# Altium integrated library ON Semi MOSFETs.IntLib: 1097 symbols (part 4 of 26)
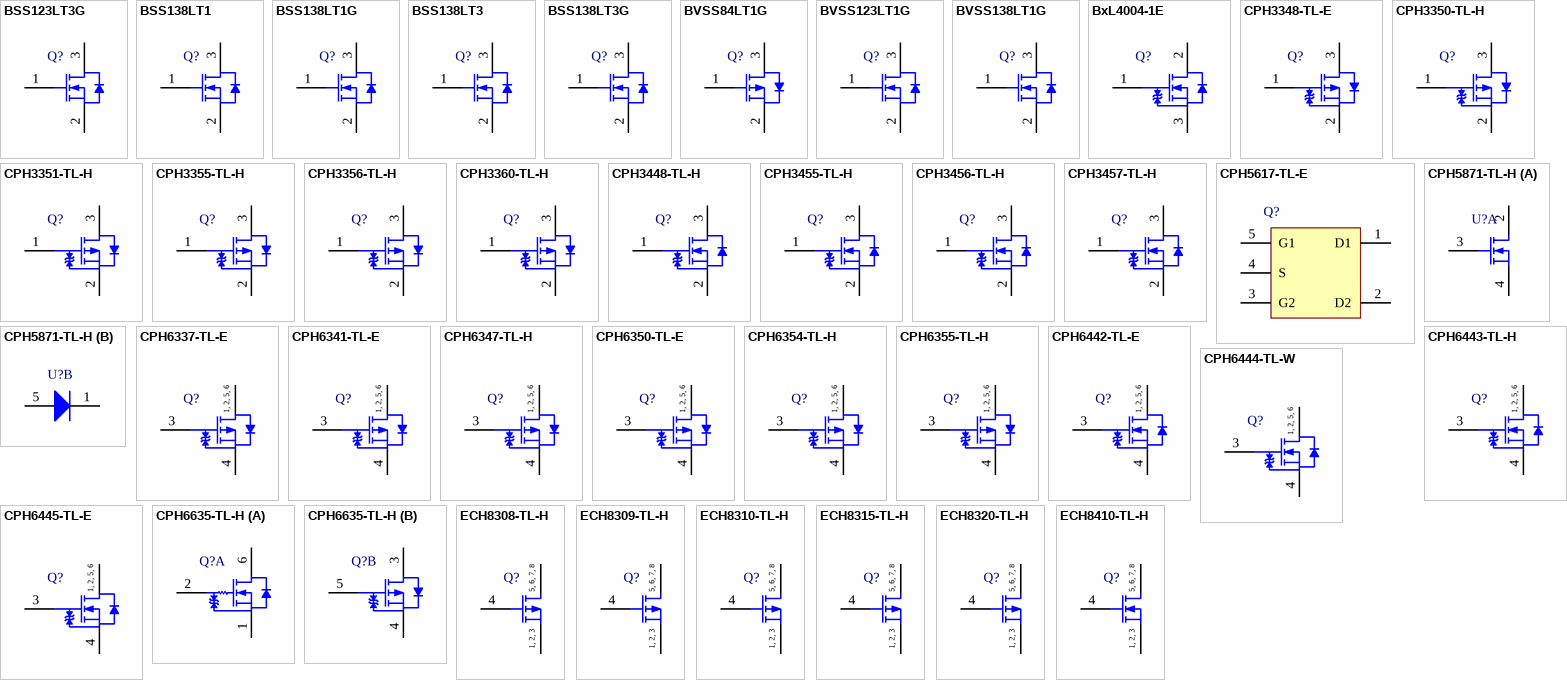
[diagram p34: symbols BSS123LT3G to ECH8410-TL-H]

## BSS138LT3
designator Q?
Power MOSFET, 200 mA, 50 V, N-Channel, 3-Pin SOT-23, Tape and Reel; Manufacturer: On Semiconductor; PartNumber: BSS138LT3; Channel Polarity: N Channel; Ciss Typ (pF): 40; Configuration: Single; Coss Typ (pF): 12; Crss Typ (pF): 3.5; ID Max (A): 0.2; PD Max (W): 0.225; V(BR)DSS Min (V): 50; VGS Max (V): 20; VGS(th) Max (V): 1.5; DatasheetVersion: Rev. 8; PackageVersion: Rev. AP, 11/2009; PackageReference: SOT-23-3-318-08; PackageDescription: 3-Pin Small Outline Transistor, Body 2.92 x 1.3 mm, Pitch 0.95 mm; Supplier 1: Digi-Key; Supplier Part Number 1: BSS138LT3-ND; Package Type: SOT-23-3; Packing: Tape and Reel; Mounting Technology: Surface Mount; ComponentLink1Description: Manufacturer URL; ComponentLink1URL: http://www.onsemi.com/; ComponentLink2Description: Datasheet; ComponentLink2URL: http://www.onsemi.com/pub_link/Collateral/BSS138LT1-D.PDF; ComponentLink3Description: Package Specification; ComponentLink3URL: http://www.onsemi.cn/pub_link/Collateral/318-08.PDF
footprint ONSC-SOT-23-3-318-08_V (SOT23, 3-Leads, Body 2.92x1.3mm, Pitch 0.95mm)
pins: 1 G, 2 S, 3 D

## BSS138LT3G
designator Q?
Power MOSFET, 200 mA, 50 V, N-Channel, 3-Pin SOT-23, Pb-Free, Tape and Reel; Manufacturer: On Semiconductor; PartNumber: BSS138LT3G; Channel Polarity: N Channel; Ciss Typ (pF): 40; Configuration: Single; Coss Typ (pF): 12; Crss Typ (pF): 3.5; ID Max (A): 0.2; PD Max (W): 0.225; V(BR)DSS Min (V): 50; VGS Max (V): 20; VGS(th) Max (V): 1.5; DatasheetVersion: Rev. 8; PackageVersion: Rev. AP, 11/2009; PackageReference: SOT-23-3-318-08; PackageDescription: 3-Pin Small Outline Transistor, Body 2.92 x 1.3 mm, Pitch 0.95 mm; Supplier 1: Digi-Key; Supplier Part Number 1: BSS138LT3GOSTR-ND; Supplier 2: Digi-Key; Supplier Part Number 2: BSS138LT3GOSCT-ND; Supplier 3: Farnell; Supplier Part Number 3: 2101819; Supplier 4: Farnell; Supplier Part Number 4: 2369427; Supplier 5: Newark; Supplier Part Number 5: 45J0624; Supplier 6: Newark; Supplier Part Number 6: 09R9392; Supplier 7: Mouser; Supplier Part Number 7: 863-BSS138LT3G; Package Type: SOT-23-3; Packing: Tape and Reel; RoHS: Pb-Free; Mounting Technology: Surface Mount; ComponentLink1Description: Manufacturer URL; ComponentLink1URL: http://www.onsemi.com/; ComponentLink2Description: Datasheet; ComponentLink2URL: http://www.onsemi.com/pub_link/Collateral/BSS138LT1-D.PDF; ComponentLink3Description: Package Specification; ComponentLink3URL: http://www.onsemi.cn/pub_link/Collateral/318-08.PDF
footprint ONSC-SOT-23-3-318-08_V (SOT23, 3-Leads, Body 2.92x1.3mm, Pitch 0.95mm)
pins: 1 G, 2 S, 3 D

## BVSS84LT1G
designator Q?
Power MOSFET Single P-Channel, -50 V, 10 Ohm, 3-Pin SOT-23, Pb-Free, Tape and Reel; Manufacturer: On Semiconductor; PartNumber: BVSS84LT1G; Channel Polarity: P Channel; Ciss Typ (pF): 36; Coss Typ (pF): 17; Crss Typ (pF): 6.5; ID Max (A): 0.13; PD Max (W): 0.225; V(BR)DSS Min (V): 50; VGS Max (V): 20; VGS(th) Max (V): 2; DatasheetVersion: Rev. 8; PackageVersion: Rev. AP, 11/2009; PackageReference: SOT-23-3-318-08; PackageDescription: 3-Pin Small Outline Transistor, Body 2.92 x 1.3 mm, Pitch 0.95 mm; Supplier 1: Digi-Key; Supplier Part Number 1: BVSS84LT1G-ND; Supplier 2: Newark; Supplier Part Number 2: 76T5276; Supplier 3: Mouser; Supplier Part Number 3: 863-BVSS84LT1G; Configuration: Single; Package Type: SOT-23-3; Packing: Tape and Reel; RoHS: Pb-Free; Mounting Technology: Surface Mount; ComponentLink1Description: Manufacturer URL; ComponentLink1URL: http://www.onsemi.com/; ComponentLink2Description: Datasheet; ComponentLink2URL: http://www.onsemi.com/pub_link/Collateral/BSS84LT1-D.PDF; ComponentLink3Description: Package Specification; ComponentLink3URL: http://www.onsemi.cn/pub_link/Collateral/318-08.PDF
footprint ONSC-SOT-23-3-318-08_V (SOT23, 3-Leads, Body 2.92x1.3mm, Pitch 0.95mm)
pins: 1 G, 2 S, 3 D

## BVSS123LT1G
designator Q?
Power MOSFET, 170 mA, 100 V, N-Channel, 3-Pin SOT-23, Pb-Free, Tape and Reel; Manufacturer: On Semiconductor; PartNumber: BVSS123LT1G; Channel Polarity: N Channel; Ciss Typ (pF): 20; Configuration: Single; Coss Typ (pF): 9; Crss Typ (pF): 4; ID Max (A): 0.17; PD Max (W): 0.225; V(BR)DSS Min (V): 100; VGS(th) Max (V): 2.6; DatasheetVersion: Rev. 8; PackageVersion: Rev. AP, 11/2009; PackageReference: SOT-23-3-318-08; PackageDescription: 3-Pin Small Outline Transistor, Body 2.92 x 1.3 mm, Pitch 0.95 mm; Supplier 1: Digi-Key; Supplier Part Number 1: BVSS123LT1G-ND; Supplier 2: Newark; Supplier Part Number 2: 76T5274; Supplier 3: Mouser; Supplier Part Number 3: 863-BVSS123LT1G; Package Type: SOT-23-3; Packing: Tape and Reel; RoHS: Pb-Free; VGS Max (V): 20; Mounting Technology: Surface Mount; ComponentLink1Description: Manufacturer URL; ComponentLink1URL: http://www.onsemi.com/; ComponentLink2Description: Datasheet; ComponentLink2URL: http://www.onsemi.com/pub_link/Collateral/BSS123LT1-D.PDF; ComponentLink3Description: Package Specification; ComponentLink3URL: http://www.onsemi.cn/pub_link/Collateral/318-08.PDF
footprint ONSC-SOT-23-3-318-08_V (SOT23, 3-Leads, Body 2.92x1.3mm, Pitch 0.95mm)
pins: 1 G, 2 S, 3 D

## BVSS138LT1G
designator Q?
Power MOSFET, 200 mA, 50 V, N-Channel, 3-Pin SOT-23, Pb-Free, Tape and Reel; Manufacturer: On Semiconductor; PartNumber: BVSS138LT1G; Channel Polarity: N Channel; Ciss Typ (pF): 40; Configuration: Single; Coss Typ (pF): 12; Crss Typ (pF): 3.5; ID Max (A): 0.2; PD Max (W): 0.225; V(BR)DSS Min (V): 50; VGS Max (V): 20; VGS(th) Max (V): 1.5; DatasheetVersion: Rev. 8; PackageVersion: Rev. AP, 11/2009; PackageReference: SOT-23-3-318-08; PackageDescription: 3-Pin Small Outline Transistor, Body 2.92 x 1.3 mm, Pitch 0.95 mm; Supplier 1: Digi-Key; Supplier Part Number 1: BVSS138LT1G-ND; Supplier 2: Newark; Supplier Part Number 2: 76T5275; Supplier 3: Mouser; Supplier Part Number 3: 863-BVSS138LT1G; Package Type: SOT-23-3; Packing: Tape and Reel; RoHS: Pb-Free; Mounting Technology: Surface Mount; ComponentLink1Description: Manufacturer URL; ComponentLink1URL: http://www.onsemi.com/; ComponentLink2Description: Datasheet; ComponentLink2URL: http://www.onsemi.com/pub_link/Collateral/BSS138LT1-D.PDF; ComponentLink3Description: Package Specification; ComponentLink3URL: http://www.onsemi.cn/pub_link/Collateral/318-08.PDF
footprint ONSC-SOT-23-3-318-08_V (SOT23, 3-Leads, Body 2.92x1.3mm, Pitch 0.95mm)
pins: 1 G, 2 S, 3 D

## BxL4004-1E
designator Q?
N-Channel Power MOSFET, 40 V, 100 A, 3.9 mOhm, 3-Pin TO-220, Pb-Free, Fan-Fold; Manufacturer: On Semiconductor; PartNumber: BxL4004-1E; Channel Polarity: N Channel; Ciss Typ (pF): 8200; Configuration: Single; Coss Typ (pF): 940; Crss Typ (pF): 700; ID Max (A): 100; Qrr Typ (nC): 230; V(BR)DSS Min (V): 40; VGS Max (V): 20; VGS(th) Max (V): 2.6; PackageVersion: Rev. O, 03/2012; PackageReference: TO-220-3L-3-221AU; PackageDescription: 3-Pin Flange Mount, Vertical Straight Lead, Body 10 x 4.5 mm, Pitch 2.54 mm; Package Type: TO-220 3-Lead / TO-220-3L; Packing: Fan-Fold; RoHS: Pb-Free; Mounting Technology: Through Hole; ComponentLink1Description: Manufacturer URL; ComponentLink1URL: http://www.onsemi.com/; ComponentLink2Description: Datasheet; ComponentLink2URL: http://www.onsemi.com/pub_link/Collateral/EN9050-D.PDF; ComponentLink3Description: Package Specification; ComponentLink3URL: http://www.onsemi.com/pub_link/Collateral/221AU.PDF
footprint ONSC-TO-220-3L-3-221AU (FM, 3-Leads, Body 10.2x4.7mm, Pitch 2.54mm)
pins: 1 G, 2 D, 3 S

## CPH3348-TL-E
designator Q?
P-Channel Power MOSFET, -12 V, -3 A, 70 mOhm, 3-Pin CPH, Pb-Free, Tape and Reel; Manufacturer: On Semiconductor; PartNumber: CPH3348-TL-E; Channel Polarity: P Channel; Ciss Typ (pF): 405; Configuration: Single; Coss Typ (pF): 145; Crss Typ (pF): 100; ID Max (A): 3; PD Max (W): 1; V(BR)DSS Min (V): 12; VGS Max (V): 10; VGS(th) Max (V): 1.4; PackageReference: CPH-3; PackageDescription: 3-Pin Small Outline Transistor, Body 2.9 x 1.6 mm, Pitch 0.95 mm; Supplier 1: Digi-Key; Supplier Part Number 1: 869-1130-2-ND; Supplier 2: Digi-Key; Supplier Part Number 2: 869-1130-1-ND; Supplier 3: Digi-Key; Supplier Part Number 3: 869-1130-6-ND; Supplier 4: Newark; Supplier Part Number 4: 52T7671; Supplier 5: Mouser; Supplier Part Number 5: 863-CPH3348-TL-E; Package Type: CPH-3; Packing: Tape and Reel; RoHS: Pb-Free; Mounting Technology: Surface Mount; ComponentLink1Description: Manufacturer URL; ComponentLink1URL: http://www.onsemi.com/; ComponentLink2Description: Datasheet; ComponentLink2URL: http://www.onsemi.com/pub_link/Collateral/CPH3348-D.PDF; ComponentLink3Description: Package Specification; ComponentLink3URL: http://www.onsemi.com/pub_link/Collateral/50A02CH-D.PDF
footprint ONSC-CPH-3_V (SOT23, 3-Leads, Body 2.9x1.6mm, Pitch 0.95mm)
pins: 1 G, 2 S, 3 D

## CPH3350-TL-H
designator Q?
P-Channel Power MOSFET, -20 V, -3 A, 83 mOhm, 3-Pin CPH, Pb-Free, Tape and Reel; Manufacturer: On Semiconductor; PartNumber: CPH3350-TL-H; Channel Polarity: P Channel; Ciss Typ (pF): 375; Configuration: Single; Coss Typ (pF): 77; Crss Typ (pF): 58; ID Max (A): 3; PD Max (W): 1; V(BR)DSS Min (V): 20; VGS Max (V): 10; VGS(th) Max (V): 1.3; PackageReference: CPH-3; PackageDescription: 3-Pin Small Outline Transistor, Body 2.9 x 1.6 mm, Pitch 0.95 mm; Supplier 1: Digi-Key; Supplier Part Number 1: CPH3350-TL-H-ND; Supplier 2: Newark; Supplier Part Number 2: 07W6742; Supplier 3: Mouser; Supplier Part Number 3: 863-CPH3350-TL-H; Package Type: CPH-3; Packing: Tape and Reel; RoHS: Pb-Free; Mounting Technology: Surface Mount; ComponentLink1Description: Manufacturer URL; ComponentLink1URL: http://www.onsemi.com/; ComponentLink2Description: Datasheet; ComponentLink2URL: http://www.onsemi.com/pub_link/Collateral/ENA0151-D.PDF; ComponentLink3Description: Package Specification; ComponentLink3URL: http://www.onsemi.com/pub_link/Collateral/50A02CH-D.PDF
footprint ONSC-CPH-3_V (SOT23, 3-Leads, Body 2.9x1.6mm, Pitch 0.95mm)
pins: 1 G, 2 S, 3 D

## CPH3351-TL-H
designator Q?
P-Channel Power MOSFET, -60 V, -1.8 A, 250 mOhm, 3-Pin CPH, Pb-Free, Tape and Reel; Manufacturer: On Semiconductor; PartNumber: CPH3351-TL-H; Channel Polarity: P Channel; Ciss Typ (pF): 262; Configuration: Single; Coss Typ (pF): 29; Crss Typ (pF): 19; ID Max (A): 1.8; PD Max (W): 1; V(BR)DSS Min (V): 60; VGS Max (V): 20; VGS(th) Max (V): 2.6; PackageReference: CPH-3; PackageDescription: 3-Pin Small Outline Transistor, Body 2.9 x 1.6 mm, Pitch 0.95 mm; Supplier 1: Digi-Key; Supplier Part Number 1: CPH3351-TL-H-ND; Supplier 2: Newark; Supplier Part Number 2: 52T7672; Supplier 3: Mouser; Supplier Part Number 3: 863-CPH3351-TL-H; Package Type: CPH-3; Packing: Tape and Reel; RoHS: Pb-Free; Mounting Technology: Surface Mount; ComponentLink1Description: Manufacturer URL; ComponentLink1URL: http://www.onsemi.com/; ComponentLink2Description: Datasheet; ComponentLink2URL: http://www.onsemi.com/pub_link/Collateral/ENA1880-D.PDF; ComponentLink3Description: Package Specification; ComponentLink3URL: http://www.onsemi.com/pub_link/Collateral/50A02CH-D.PDF
footprint ONSC-CPH-3_V (SOT23, 3-Leads, Body 2.9x1.6mm, Pitch 0.95mm)
pins: 1 G, 2 S, 3 D

## CPH3355-TL-H
designator Q?
P-Channel Power MOSFET, -30 V, -2.5 A, 156 mOhm, 3-Pin CPH, Pb-Free, Tape and Reel; Manufacturer: On Semiconductor; PartNumber: CPH3355-TL-H; Channel Polarity: P Channel; Ciss Typ (pF): 172; Configuration: Single; Coss Typ (pF): 51; Crss Typ (pF): 36; ID Max (A): 2.5; PD Max (W): 1; V(BR)DSS Min (V): 30; VGS Max (V): 20; VGS(th) Max (V): 2.6; PackageReference: CPH-3; PackageDescription: 3-Pin Small Outline Transistor, Body 2.9 x 1.6 mm, Pitch 0.95 mm; Supplier 1: Digi-Key; Supplier Part Number 1: CPH3355-TL-H-ND; Supplier 2: Mouser; Supplier Part Number 2: 863-CPH3355-TL-H; Package Type: CPH-3; Packing: Tape and Reel; RoHS: Pb-Free; Mounting Technology: Surface Mount; ComponentLink1Description: Manufacturer URL; ComponentLink1URL: http://www.onsemi.com/; ComponentLink2Description: Datasheet; ComponentLink2URL: http://www.onsemi.com/pub_link/Collateral/CPH3355-D.PDF; ComponentLink3Description: Package Specification; ComponentLink3URL: http://www.onsemi.com/pub_link/Collateral/50A02CH-D.PDF
footprint ONSC-CPH-3_V (SOT23, 3-Leads, Body 2.9x1.6mm, Pitch 0.95mm)
pins: 1 G, 2 S, 3 D

## CPH3356-TL-H
designator Q?
P-Channel Power MOSFET, -20 V, -2.5 A, 137 Ohm, 3-Pin CPH, Pb-Free, Tape and Reel; Manufacturer: On Semiconductor; PartNumber: CPH3356-TL-H; Channel Polarity: P Channel; Ciss Typ (pF): 250; Configuration: Single; Coss Typ (pF): 60; Crss Typ (pF): 45; ID Max (A): 2.5; PD Max (W): 1; V(BR)DSS Min (V): 20; VGS Max (V): 10; VGS(th) Max (V): 1.4; PackageReference: CPH-3; PackageDescription: 3-Pin Small Outline Transistor, Body 2.9 x 1.6 mm, Pitch 0.95 mm; Supplier 1: Digi-Key; Supplier Part Number 1: CPH3356-TL-H-ND; Supplier 2: Mouser; Supplier Part Number 2: 863-CPH3356-TL-H; Package Type: CPH-3; Packing: Tape and Reel; RoHS: Pb-Free; Mounting Technology: Surface Mount; ComponentLink1Description: Manufacturer URL; ComponentLink1URL: http://www.onsemi.com/; ComponentLink2Description: Datasheet; ComponentLink2URL: http://www.onsemi.com/pub_link/Collateral/CPH3356.PDF; ComponentLink3Description: Package Specification; ComponentLink3URL: http://www.onsemi.com/pub_link/Collateral/50A02CH-D.PDF
footprint ONSC-CPH-3_V (SOT23, 3-Leads, Body 2.9x1.6mm, Pitch 0.95mm)
pins: 1 G, 2 S, 3 D

## CPH3360-TL-H
designator Q?
P-Channel Power MOSFET, -30 V, -1.6 A, 303 mOhm, 3-Pin CPH, Pb-Free, Tape and Reel; Manufacturer: On Semiconductor; PartNumber: CPH3360-TL-H; Channel Polarity: P Channel; Ciss Typ (pF): 82; Configuration: Single; Coss Typ (pF): 22; Crss Typ (pF): 16; ID Max (A): 1.6; PD Max (W): 0.9; V(BR)DSS Min (V): 30; VGS Max (V): 20; VGS(th) Max (V): 2.6; PackageReference: CPH-3; PackageDescription: 3-Pin Small Outline Transistor, Body 2.9 x 1.6 mm, Pitch 0.95 mm; Supplier 1: Digi-Key; Supplier Part Number 1: CPH3360-TL-H-ND; Supplier 2: Newark; Supplier Part Number 2: 07W6744; Supplier 3: Mouser; Supplier Part Number 3: 863-CPH3360-TL-H; Package Type: CPH-3; Packing: Tape and Reel; RoHS: Pb-Free; Mounting Technology: Surface Mount; ComponentLink1Description: Manufacturer URL; ComponentLink1URL: http://www.onsemi.com/; ComponentLink2Description: Datasheet; ComponentLink2URL: http://www.onsemi.com/pub_link/Collateral/ENA0114-D.PDF; ComponentLink3Description: Package Specification; ComponentLink3URL: http://www.onsemi.com/pub_link/Collateral/50A02CH-D.PDF
footprint ONSC-CPH-3_V (SOT23, 3-Leads, Body 2.9x1.6mm, Pitch 0.95mm)
pins: 1 G, 2 S, 3 D

## CPH3448-TL-H
designator Q?
N-Channel Power MOSFET 30 V, 4 A, 50 mOhm, 3-Pin CPH, Pb-Free, Tape and Reel; Manufacturer: On Semiconductor; PartNumber: CPH3448-TL-H; Channel Polarity: N Channel; Ciss Typ (pF): 430; Configuration: Single; Coss Typ (pF): 59; Crss Typ (pF): 38; ID Max (A): 4; PD Max (W): 1; V(BR)DSS Min (V): 30; VGS Max (V): 12; VGS(th) Max (V): 1.3; PackageReference: CPH-3; PackageDescription: 3-Pin Small Outline Transistor, Body 2.9 x 1.6 mm, Pitch 0.95 mm; Supplier 1: Digi-Key; Supplier Part Number 1: CPH3448-TL-H-ND; Supplier 2: Mouser; Supplier Part Number 2: 863-CPH3448-TL-H; Package Type: CPH-3; Packing: Tape and Reel; RoHS: Pb-Free; Mounting Technology: Surface Mount; ComponentLink1Description: Manufacturer URL; ComponentLink1URL: http://www.onsemi.com/; ComponentLink2Description: Datasheet; ComponentLink2URL: http://www.onsemi.com/pub_link/Collateral/CPH3448-D.PDF; ComponentLink3Description: Package Specification; ComponentLink3URL: http://www.onsemi.com/pub_link/Collateral/50A02CH-D.PDF
footprint ONSC-CPH-3_V (SOT23, 3-Leads, Body 2.9x1.6mm, Pitch 0.95mm)
pins: 1 G, 2 S, 3 D

## CPH3455-TL-H
designator Q?
N-Channel Power MOSFET, 35 V, 3 A, 104 mOhm, 3-Pin CPH, Pb-Free, Tape and Reel; Manufacturer: On Semiconductor; PartNumber: CPH3455-TL-H; Channel Polarity: N Channel; Ciss Typ (pF): 186; Configuration: Single; Coss Typ (pF): 36; Crss Typ (pF): 22; ID Max (A): 3; PD Max (W): 1; V(BR)DSS Min (V): 35; VGS Max (V): 20; VGS(th) Max (V): 2.6; PackageReference: CPH-3; PackageDescription: 3-Pin Small Outline Transistor, Body 2.9 x 1.6 mm, Pitch 0.95 mm; Supplier 1: Digi-Key; Supplier Part Number 1: CPH3455-TL-H-ND; Supplier 2: Mouser; Supplier Part Number 2: 863-CPH3455-TL-H; Package Type: CPH-3; Packing: Tape and Reel; RoHS: Pb-Free; Mounting Technology: Surface Mount; ComponentLink1Description: Manufacturer URL; ComponentLink1URL: http://www.onsemi.com/; ComponentLink2Description: Datasheet; ComponentLink2URL: http://www.onsemi.com/pub_link/Collateral/CPH3455-D.PDF; ComponentLink3Description: Package Specification; ComponentLink3URL: http://www.onsemi.com/pub_link/Collateral/50A02CH-D.PDF
footprint ONSC-CPH-3_V (SOT23, 3-Leads, Body 2.9x1.6mm, Pitch 0.95mm)
pins: 1 G, 2 S, 3 D

## CPH3456-TL-H
designator Q?
N-Channel Power MOSFET, 20 V, 3.5 A, 71 mOhm, 3-Pin CPH, Pb-Free, Tape and Reel; Manufacturer: On Semiconductor; PartNumber: CPH3456-TL-H; Channel Polarity: N Channel; Ciss Typ (pF): 260; Configuration: Single; Coss Typ (pF): 65; Crss Typ (pF): 50; ID Max (A): 3.5; PD Max (W): 1; V(BR)DSS Min (V): 20; VGS Max (V): 12; VGS(th) Max (V): 1.3; PackageReference: CPH-3; PackageDescription: 3-Pin Small Outline Transistor, Body 2.9 x 1.6 mm, Pitch 0.95 mm; Supplier 1: Digi-Key; Supplier Part Number 1: CPH3456-TL-H-ND; Supplier 2: Mouser; Supplier Part Number 2: 863-CPH3456-TL-H; Package Type: CPH-3; Packing: Tape and Reel; RoHS: Pb-Free; Mounting Technology: Surface Mount; ComponentLink1Description: Manufacturer URL; ComponentLink1URL: http://www.onsemi.com/; ComponentLink2Description: Datasheet; ComponentLink2URL: http://www.onsemi.com/pub_link/Collateral/CPH3456-D.PDF; ComponentLink3Description: Package Specification; ComponentLink3URL: http://www.onsemi.com/pub_link/Collateral/50A02CH-D.PDF
footprint ONSC-CPH-3_V (SOT23, 3-Leads, Body 2.9x1.6mm, Pitch 0.95mm)
pins: 1 G, 2 S, 3 D

## CPH3457-TL-H
designator Q?
N-Channel Power MOSFET, 30 V, 3 A, 95 mOhm, 3-Pin CPH, Pb-Free, Tape and Reel; Manufacturer: On Semiconductor; PartNumber: CPH3457-TL-H; Channel Polarity: N Channel; Ciss Typ (pF): 265; Configuration: Single; Coss Typ (pF): 35; Crss Typ (pF): 28; ID Max (A): 3; PD Max (W): 1; V(BR)DSS Min (V): 30; VGS Max (V): 12; VGS(th) Max (V): 1.3; PackageReference: CPH-3; PackageDescription: 3-Pin Small Outline Transistor, Body 2.9 x 1.6 mm, Pitch 0.95 mm; Supplier 1: Digi-Key; Supplier Part Number 1: CPH3457-TL-H-ND; Supplier 2: Mouser; Supplier Part Number 2: 863-CPH3457-TL-H; Package Type: CPH-3; Packing: Tape and Reel; RoHS: Pb-Free; Mounting Technology: Surface Mount; ComponentLink1Description: Manufacturer URL; ComponentLink1URL: http://www.onsemi.com/; ComponentLink2Description: Datasheet; ComponentLink2URL: http://www.onsemi.com/pub_link/Collateral/CPH3457-D.PDF; ComponentLink3Description: Package Specification; ComponentLink3URL: http://www.onsemi.com/pub_link/Collateral/50A02CH-D.PDF
footprint ONSC-CPH-3_V (SOT23, 3-Leads, Body 2.9x1.6mm, Pitch 0.95mm)
pins: 1 G, 2 S, 3 D

## CPH5617-TL-E
designator Q?
N-Channel Power MOSFET, 30 V, 150 mA, 3.7 Ohm, 5-Pin CPH, Pb-Free, Tape and Reel; Manufacturer: On Semiconductor; PartNumber: CPH5617-TL-E; Channel Polarity: N Channel; Ciss Typ (pF): 7; Configuration: Dual; Coss Typ (pF): 5.9; Crss Typ (pF): 2.3; ID Max (A): 0.15; PD Max (W): 0.25; V(BR)DSS Min (V): 30; VGS Max (V): 10; VGS(th) Max (V): 1.3; PackageReference: CPH-5; PackageDescription: 5-Pin Small Outline Transistor, Body 2.9 x 1.6 mm, Pitch 0.95 mm; Supplier 1: Digi-Key; Supplier Part Number 1: CPH5617-TL-E-ND; Supplier 2: Newark; Supplier Part Number 2: 07W6752; Supplier 3: Mouser; Supplier Part Number 3: 863-CPH5617-TL-E; Package Type: CPH-5; Packing: Tape and Reel; RoHS: Pb-Free; Mounting Technology: Surface Mount; ComponentLink1Description: Manufacturer URL; ComponentLink1URL: http://www.onsemi.com/; ComponentLink2Description: Datasheet; ComponentLink2URL: http://www.onsemi.com/pub_link/Collateral/CPH5617-D.PDF; ComponentLink3Description: Package Specification; ComponentLink3URL: http://www.onsemi.com/pub_link/Collateral/CPH5504-D.PDF
footprint ONSC-CPH-5_V (SOT23, 5-Leads, Body 2.9x1.6mm, Pitch 0.95mm)
pins: 1 D1, 2 D2, 3 G2, 4 S, 5 G1

## CPH5871-TL-H
designator U?
N-Channel Power MOSFET, 30 V, 3.5 A, 52 mOhm, 5-Pin CPH, Pb-Free, Tape and Reel; Manufacturer: On Semiconductor; PartNumber: CPH5871-TL-H; Channel Polarity: N Channel; Ciss Typ (pF): 430; Configuration: with Schottky Diode; Coss Typ (pF): 59; Crss Typ (pF): 38; ID Max (A): 3.5; PD Max (W): 0.9; V(BR)DSS Min (V): 30; VGS Max (V): 12; VGS(th) Max (V): 1.3; PackageReference: CPH-5; PackageDescription: 5-Pin Small Outline Transistor, Body 2.9 x 1.6 mm, Pitch 0.95 mm; Supplier 1: Digi-Key; Supplier Part Number 1: CPH5871-TL-H-ND; Supplier 2: Newark; Supplier Part Number 2: 07W6753; Supplier 3: Mouser; Supplier Part Number 3: 863-CPH5871-TL-H; Package Type: CPH-5; Packing: Tape and Reel; RoHS: Pb-Free; Mounting Technology: Surface Mount; ComponentLink1Description: Manufacturer URL; ComponentLink1URL: http://www.onsemi.com/; ComponentLink2Description: Datasheet; ComponentLink2URL: http://www.onsemi.com/pub_link/Collateral/ENA1401-D.PDF; ComponentLink3Description: Package Specification; ComponentLink3URL: http://www.onsemi.com/pub_link/Collateral/CPH5504-D.PDF
footprint ONSC-CPH-5_V (SOT23, 5-Leads, Body 2.9x1.6mm, Pitch 0.95mm)
part A pins: 2 D, 3 G, 4 S
part B pins: 1 K, 5 A

## CPH6337-TL-E
designator Q?
P-Channel Power MOSFET, -12 V, -3.5 A, 70 mOhm, 6-Pin CPH, Pb-Free, Tape and Reel; Manufacturer: On Semiconductor; PartNumber: CPH6337-TL-E; Channel Polarity: P Channel; Ciss Typ (pF): 405; Configuration: Single; Coss Typ (pF): 145; Crss Typ (pF): 100; ID Max (A): 3.5; PD Max (W): 1.6; V(BR)DSS Min (V): 12; VGS Max (V): 10; VGS(th) Max (V): 1.4; PackageReference: CPH-6; PackageDescription: 6-Pin Small Outline Transistor, Body 2.9 x 1.6 mm, Pitch 0.95 mm; Supplier 1: Digi-Key; Supplier Part Number 1: CPH6337-TL-E-ND; Supplier 2: Mouser; Supplier Part Number 2: 863-CPH6337-TL-E; Package Type: CPH-6; Packing: Tape and Reel; RoHS: Pb-Free; Mounting Technology: Surface Mount; ComponentLink1Description: Manufacturer URL; ComponentLink1URL: http://www.onsemi.com/; ComponentLink2Description: Datasheet; ComponentLink2URL: http://www.onsemi.com/pub_link/Collateral/CPH6337-D.PDF; ComponentLink3Description: Package Specification; ComponentLink3URL: http://www.onsemi.com/pub_link/Collateral/CPH6001A-D.PDF
footprint ONSC-CPH-6_V (SOT23, 6-Leads, Body 2.9x1.6mm, Pitch 0.95mm)
pins: 1 D, 2 D, 3 G, 4 S, 5 D, 6 D
text: 1, 2, 5, 6

## CPH6341-TL-E
designator Q?
P-Channel Power MOSFET, -30 V, -5 A, 59 mOhm, 6-Pin CPH, Pb-Free, Tape and Reel; Manufacturer: On Semiconductor; PartNumber: CPH6341-TL-E; Channel Polarity: P Channel; Ciss Typ (pF): 430; Configuration: Single; Coss Typ (pF): 105; Crss Typ (pF): 75; ID Max (A): 5; PD Max (W): 1.6; V(BR)DSS Min (V): 30; VGS Max (V): 20; VGS(th) Max (V): 2.6; PackageReference: CPH-6; PackageDescription: 6-Pin Small Outline Transistor, Body 2.9 x 1.6 mm, Pitch 0.95 mm; Supplier 1: Digi-Key; Supplier Part Number 1: 869-1141-2-ND; Supplier 2: Digi-Key; Supplier Part Number 2: 869-1141-1-ND; Supplier 3: Digi-Key; Supplier Part Number 3: 869-1141-6-ND; Supplier 4: Newark; Supplier Part Number 4: 52T7683; Supplier 5: Mouser; Supplier Part Number 5: 863-CPH6341-TL-E; Package Type: CPH-6; Packing: Tape and Reel; RoHS: Pb-Free; Mounting Technology: Surface Mount; ComponentLink1Description: Manufacturer URL; ComponentLink1URL: http://www.onsemi.com/; ComponentLink2Description: Datasheet; ComponentLink2URL: http://www.onsemi.com/pub_link/Collateral/CPH6341-D.PDF; ComponentLink3Description: Package Specification; ComponentLink3URL: http://www.onsemi.com/pub_link/Collateral/CPH6001A-D.PDF
footprint ONSC-CPH-6_V (SOT23, 6-Leads, Body 2.9x1.6mm, Pitch 0.95mm)
pins: 1 D, 2 D, 3 G, 4 S, 5 D, 6 D
text: 1, 2, 5, 6

## CPH6347-TL-H
designator Q?
P-Channel Power MOSFET, -20 V, -6 A, 39 mOhm, 6-Pin CPH, Pb-Free, Tape and Reel; Manufacturer: On Semiconductor; PartNumber: CPH6347-TL-H; Channel Polarity: P Channel; Ciss Typ (pF): 860; Configuration: Single; Coss Typ (pF): 170; Crss Typ (pF): 130; ID Max (A): 6; PD Max (W): 1.6; V(BR)DSS Min (V): 20; VGS Max (V): 12; VGS(th) Max (V): 1.4; PackageReference: CPH-6; PackageDescription: 6-Pin Small Outline Transistor, Body 2.9 x 1.6 mm, Pitch 0.95 mm; Supplier 1: Digi-Key; Supplier Part Number 1: CPH6347-TL-H-ND; Supplier 2: Mouser; Supplier Part Number 2: 863-CPH6347-TL-H; Package Type: CPH-6; Packing: Tape and Reel; RoHS: Pb-Free; Mounting Technology: Surface Mount; ComponentLink1Description: Manufacturer URL; ComponentLink1URL: http://www.onsemi.com/; ComponentLink2Description: Datasheet; ComponentLink2URL: http://www.onsemi.com/pub_link/Collateral/CPH6347-D.PDF; ComponentLink3Description: Package Specification; ComponentLink3URL: http://www.onsemi.com/pub_link/Collateral/CPH6001A-D.PDF
footprint ONSC-CPH-6_V (SOT23, 6-Leads, Body 2.9x1.6mm, Pitch 0.95mm)
pins: 1 D, 2 D, 3 G, 4 S, 5 D, 6 D
text: 1, 2, 5, 6

## CPH6350-TL-E
designator Q?
P-Channel Power MOSFET, -30 V, -6 A, 43 mOhm, 6-Pin CPH, Pb-Free, Tape and Reel; Manufacturer: On Semiconductor; PartNumber: CPH6350-TL-E; Channel Polarity: P Channel; Ciss Typ (pF): 600; Configuration: Single; Coss Typ (pF): 145; Crss Typ (pF): 110; ID Max (A): 6; PD Max (W): 1.6; V(BR)DSS Min (V): 30; VGS Max (V): 20; VGS(th) Max (V): 2.6; PackageReference: CPH-6; PackageDescription: 6-Pin Small Outline Transistor, Body 2.9 x 1.6 mm, Pitch 0.95 mm; Supplier 1: Digi-Key; Supplier Part Number 1: CPH6350-TL-E-ND; Supplier 2: Mouser; Supplier Part Number 2: 863-CPH6350-TL-E; Package Type: CPH-6; Packing: Tape and Reel; RoHS: Pb-Free; Mounting Technology: Surface Mount; ComponentLink1Description: Manufacturer URL; ComponentLink1URL: http://www.onsemi.com/; ComponentLink2Description: Datasheet; ComponentLink2URL: http://www.onsemi.com/pub_link/Collateral/CPH6350-D.PDF; ComponentLink3Description: Package Specification; ComponentLink3URL: http://www.onsemi.com/pub_link/Collateral/CPH6001A-D.PDF
footprint ONSC-CPH-6_V (SOT23, 6-Leads, Body 2.9x1.6mm, Pitch 0.95mm)
pins: 1 D, 2 D, 3 G, 4 S, 5 D, 6 D
text: 1, 2, 5, 6

## CPH6354-TL-H
designator Q?
P-Channel Power MOSFET, -60 V, -4 A, 100 mOhm, 6-Pin CPH, Pb-Free, Tape and Reel; Manufacturer: On Semiconductor; PartNumber: CPH6354-TL-H; Channel Polarity: P Channel; Ciss Typ (pF): 600; Configuration: Single; Coss Typ (pF): 60; Crss Typ (pF): 50; ID Max (A): 4; PD Max (W): 1.6; VGS Max (V): 20; VGS(th) Max (V): 2.6; PackageReference: CPH-6; PackageDescription: 6-Pin Small Outline Transistor, Body 2.9 x 1.6 mm, Pitch 0.95 mm; Supplier 1: Digi-Key; Supplier Part Number 1: CPH6354-TL-H-ND; Supplier 2: Newark; Supplier Part Number 2: 07W6755; Supplier 3: Mouser; Supplier Part Number 3: 863-CPH6354-TL-H; Package Type: CPH-6; Packing: Tape and Reel; RoHS: Pb-Free; V(BR)DSS Min (V): 60; Mounting Technology: Surface Mount; ComponentLink1Description: Manufacturer URL; ComponentLink1URL: http://www.onsemi.com/; ComponentLink2Description: Datasheet; ComponentLink2URL: http://www.onsemi.com/pub_link/Collateral/CPH6354.PDF; ComponentLink3Description: Package Specification; ComponentLink3URL: http://www.onsemi.com/pub_link/Collateral/CPH6001A-D.PDF
footprint ONSC-CPH-6_V (SOT23, 6-Leads, Body 2.9x1.6mm, Pitch 0.95mm)
pins: 1 D, 2 D, 3 G, 4 S, 5 D, 6 D
text: 1, 2, 5, 6

## CPH6355-TL-H
designator Q?
P-Channel Power MOSFET, -30 V, -3 A, 169 Ohm, 6-Pin CPH, Pb-Free, Tape and Reel; Manufacturer: On Semiconductor; PartNumber: CPH6355-TL-H; Channel Polarity: P Channel; Ciss Typ (pF): 172; Configuration: Single; Coss Typ (pF): 51; Crss Typ (pF): 36; ID Max (A): 3; PD Max (W): 1.6; V(BR)DSS Min (V): 30; VGS Max (V): 20; VGS(th) Max (V): 2.6; PackageReference: CPH-6; PackageDescription: 6-Pin Small Outline Transistor, Body 2.9 x 1.6 mm, Pitch 0.95 mm; Supplier 1: Digi-Key; Supplier Part Number 1: CPH6355-TL-H-ND; Supplier 2: Mouser; Supplier Part Number 2: 863-CPH6355-TL-H; Package Type: CPH-6; Packing: Tape and Reel; RoHS: Pb-Free; Mounting Technology: Surface Mount; ComponentLink1Description: Manufacturer URL; ComponentLink1URL: http://www.onsemi.com/; ComponentLink2Description: Datasheet; ComponentLink2URL: http://www.onsemi.com/pub_link/Collateral/CPH6355-D.PDF; ComponentLink3Description: Package Specification; ComponentLink3URL: http://www.onsemi.com/pub_link/Collateral/CPH6001A-D.PDF
footprint ONSC-CPH-6_V (SOT23, 6-Leads, Body 2.9x1.6mm, Pitch 0.95mm)
pins: 1 D, 2 D, 3 G, 4 S, 5 D, 6 D
text: 1, 2, 5, 6

## CPH6442-TL-E
designator Q?
N-Channel Power MOSFET, 60 V, 6 A, 43 mOhm, 6-Pin CPH, Pb-Free, Tape and Reel; Manufacturer: On Semiconductor; PartNumber: CPH6442-TL-E; Channel Polarity: N Channel; Ciss Typ (pF): 1040; Configuration: Single; Coss Typ (pF): 90; Crss Typ (pF): 55; ID Max (A): 6; PD Max (W): 1.6; V(BR)DSS Min (V): 60; VGS Max (V): 20; VGS(th) Max (V): 2.6; PackageReference: CPH-6; PackageDescription: 6-Pin Small Outline Transistor, Body 2.9 x 1.6 mm, Pitch 0.95 mm; Supplier 1: Digi-Key; Supplier Part Number 1: CPH6442-TL-E-ND; Supplier 2: Newark; Supplier Part Number 2: 52T7686; Supplier 3: Mouser; Supplier Part Number 3: 863-CPH6442-TL-E; Package Type: CPH-6; Packing: Tape and Reel; RoHS: Pb-Free; Mounting Technology: Surface Mount; ComponentLink1Description: Manufacturer URL; ComponentLink1URL: http://www.onsemi.com/; ComponentLink2Description: Datasheet; ComponentLink2URL: http://www.onsemi.com/pub_link/Collateral/CPH6442-D.PDF; ComponentLink3Description: Package Specification; ComponentLink3URL: http://www.onsemi.com/pub_link/Collateral/CPH6001A-D.PDF
footprint ONSC-CPH-6_V (SOT23, 6-Leads, Body 2.9x1.6mm, Pitch 0.95mm)
pins: 1 D, 2 D, 3 G, 4 S, 5 D, 6 D
text: 1, 2, 5, 6

## CPH6443-TL-H
designator Q?
N-Channel Power MOSFET, 35 V, 6 A, 37 mOhm, 6-Pin CPH, Pb-Free, Tape and Reel; Manufacturer: On Semiconductor; PartNumber: CPH6443-TL-H; Channel Polarity: N Channel; Ciss Typ (pF): 470; Configuration: Single; Coss Typ (pF): 70; Crss Typ (pF): 35; ID Max (A): 6; PD Max (W): 1.6; VGS Max (V): 20; VGS(th) Max (V): 2.6; PackageReference: CPH-6; PackageDescription: 6-Pin Small Outline Transistor, Body 2.9 x 1.6 mm, Pitch 0.95 mm; Supplier 1: Digi-Key; Supplier Part Number 1: CPH6443-TL-H-ND; Supplier 2: Mouser; Supplier Part Number 2: 863-CPH6443-TL-H; Package Type: CPH-6; Packing: Tape and Reel; RoHS: Pb-Free; V(BR)DSS Min (V): 35; Mounting Technology: Surface Mount; ComponentLink1Description: Manufacturer URL; ComponentLink1URL: http://www.onsemi.com/; ComponentLink2Description: Datasheet; ComponentLink2URL: http://www.onsemi.com/pub_link/Collateral/CPH6443-D.PDF; ComponentLink3Description: Package Specification; ComponentLink3URL: http://www.onsemi.com/pub_link/Collateral/CPH6001A-D.PDF
footprint ONSC-CPH-6_V (SOT23, 6-Leads, Body 2.9x1.6mm, Pitch 0.95mm)
pins: 1 D, 2 D, 3 G, 4 S, 5 D, 6 D
text: 1, 2, 5, 6

## CPH6444-TL-W
designator Q?
N-Channel Power MOSFET, 60 V, 4.5 A, 78 mOhm, 6-Pin CPH, Pb-Free, Tape and Reel; Manufacturer: On Semiconductor; PartNumber: CPH6444-TL-W; Channel Polarity: N Channel; Ciss Typ (pF): 505; Configuration: Single; Coss Typ (pF): 57; Crss Typ (pF): 37; ID Max (A): 4.5; PD Max (W): 1.6; V(BR)DSS Min (V): 60; VGS Max (V): 20; VGS(th) Max (V): 2.6; PackageReference: CPH-6; PackageDescription: 6-Pin Small Outline Transistor, Body 2.9 x 1.6 mm, Pitch 0.95 mm; Supplier 1: Newark; Supplier Part Number 1: 11X3109; Supplier 2: Mouser; Supplier Part Number 2: 863-CPH6444-TL-W; Package Type: CPH-6; Packing: Tape and Reel; RoHS: Pb-Free; Mounting Technology: Surface Mount; ComponentLink1Description: Manufacturer URL; ComponentLink1URL: http://www.onsemi.com/; ComponentLink2Description: Datasheet; ComponentLink2URL: http://www.onsemi.com/pub_link/Collateral/CPH6444-D.PDF; ComponentLink3Description: Package Specification; ComponentLink3URL: http://www.onsemi.com/pub_link/Collateral/CPH6001A-D.PDF
footprint ONSC-CPH-6_V (SOT23, 6-Leads, Body 2.9x1.6mm, Pitch 0.95mm)
pins: 1 D, 2 D, 3 G, 4 S, 5 D, 6 D
text: 1, 2, 5, 6

## CPH6445-TL-E
designator Q?
N-Channel Power MOSFET, 60 V, 3.5 A, 117 mOhm, 6-Pin CPH, Pb-Free, Tape and Reel; Manufacturer: On Semiconductor; PartNumber: CPH6445-TL-E; Channel Polarity: N Channel; Ciss Typ (pF): 310; Configuration: Single; Coss Typ (pF): 40; Crss Typ (pF): 25; ID Max (A): 3.5; PD Max (W): 1.6; V(BR)DSS Min (V): 60; VGS Max (V): 20; VGS(th) Max (V): 2.6; PackageReference: CPH-6; PackageDescription: 6-Pin Small Outline Transistor, Body 2.9 x 1.6 mm, Pitch 0.95 mm; Supplier 1: Digi-Key; Supplier Part Number 1: CPH6445-TL-E-ND; Supplier 2: Mouser; Supplier Part Number 2: 863-CPH6445-TL-E; Package Type: CPH-6; Packing: Tape and Reel; RoHS: Pb-Free; Mounting Technology: Surface Mount; ComponentLink1Description: Manufacturer URL; ComponentLink1URL: http://www.onsemi.com/; ComponentLink2Description: Datasheet; ComponentLink2URL: http://www.onsemi.com/pub_link/Collateral/CPH6445-D.PDF; ComponentLink3Description: Package Specification; ComponentLink3URL: http://www.onsemi.com/pub_link/Collateral/CPH6001A-D.PDF
footprint ONSC-CPH-6_V (SOT23, 6-Leads, Body 2.9x1.6mm, Pitch 0.95mm)
pins: 1 D, 2 D, 3 G, 4 S, 5 D, 6 D
text: 1, 2, 5, 6

## CPH6635-TL-H
designator Q?
Power MOSFET, 30 V, 0.4 A, 3.7 Ohm, -20 V, -1.5 A, 280 mOhm, 6-Pin CPH, Pb-Free, Tape and Reel; Manufacturer: On Semiconductor; PartNumber: CPH6635-TL-H; Channel Polarity: Complementary; Configuration: Dual; PD Max (W): 0.8; VGS Max (V): 10; PackageReference: CPH-6; PackageDescription: 6-Pin Small Outline Transistor, Body 2.9 x 1.6 mm, Pitch 0.95 mm; Supplier 1: Newark; Supplier Part Number 1: 97W4972; Supplier 2: Mouser; Supplier Part Number 2: 863-CPH6635-TL-H; Package Type: CPH-6; Packing: Tape and Reel; RoHS: Pb-Free; Mounting Technology: Surface Mount; ComponentLink1Description: Manufacturer URL; ComponentLink1URL: http://www.onsemi.com/; ComponentLink2Description: Datasheet; ComponentLink2URL: http://www.onsemi.com/pub_link/Collateral/ENA2166-D.PDF; ComponentLink3Description: Package Specification; ComponentLink3URL: http://www.onsemi.com/pub_link/Collateral/CPH6001A-D.PDF
footprint ONSC-CPH-6_V (SOT23, 6-Leads, Body 2.9x1.6mm, Pitch 0.95mm)
part A pins: 1 S1, 2 G1, 6 D1
part B pins: 3 D2, 4 S2, 5 G2

## ECH8308-TL-H
designator Q?
P-Channel Power MOSFET, -12 V, -10 A, 12.5 mOhm, Single, 8-Pin ECH, Pb-Free, Tape and Reel; Manufacturer: On Semiconductor; PartNumber: ECH8308-TL-H; Channel Polarity: P Channel; Ciss Typ (pF): 2300; Coss Typ (pF): 720; Crss Typ (pF): 550; ID Max (A): 10; PD Max (W): 1.6; V(BR)DSS Min (V): 12; VGS(th) Max (V): 1.3; PackageReference: ECH-8; PackageDescription: 8-Pin SOT23, Body 2.9 x 2.3 mm, Pitch 0.65 mm; Supplier 1: Digi-Key; Supplier Part Number 1: ECH8308-TL-H-ND; Supplier 2: Newark; Supplier Part Number 2: 52T7754; Supplier 3: Mouser; Supplier Part Number 3: 863-ECH8308-TL-H; Configuration: Single; Package Type: SOT-28 FL / ECH-8; Packing: Tape and Reel; RoHS: Pb-Free; VGS Max (V): 10; Mounting Technology: Surface Mount; ComponentLink1Description: Manufacturer URL; ComponentLink1URL: http://www.onsemi.com/; ComponentLink2Description: Datasheet; ComponentLink2URL: http://www.onsemi.com/pub_link/Collateral/ECH8308-D.PDF; ComponentLink3Description: Package Specification; ComponentLink3URL: http://www.onsemi.com/pub_link/Collateral/ECH8308-D.PDF
footprint ONSC-ECH-8_V (SOT23, 8-Leads, Body 2.9x2.3mm, Pitch 0.65mm)
pins: 1 S, 2 S, 3 S, 4 G, 5 D, 6 D, 7 D, 8 D
text: 5, 6, 7, 8; 1, 2, 3

## ECH8309-TL-H
designator Q?
P-Channel Power MOSFET, -12 V, -9.5 A, 16 mOhm, Single, 8-Pin ECH, Pb-Free, Tape and Reel; Manufacturer: On Semiconductor; PartNumber: ECH8309-TL-H; Channel Polarity: P Channel; Ciss Typ (pF): 1780; Coss Typ (pF): 540; Crss Typ (pF): 390; ID Max (A): 9.5; PD Max (W): 1.5; V(BR)DSS Min (V): 12; VGS Max (V): 10; VGS(th) Max (V): 1.3; PackageReference: ECH-8; PackageDescription: 8-Pin SOT23, Body 2.9 x 2.3 mm, Pitch 0.65 mm; Supplier 1: Digi-Key; Supplier Part Number 1: ECH8309-TL-H-ND; Supplier 2: Mouser; Supplier Part Number 2: 863-ECH8309-TL-H; Configuration: Single; Package Type: SOT-28 FL / ECH-8; Packing: Tape and Reel; RoHS: Pb-Free; Mounting Technology: Surface Mount; ComponentLink1Description: Manufacturer URL; ComponentLink1URL: http://www.onsemi.com/; ComponentLink2Description: Datasheet; ComponentLink2URL: http://www.onsemi.com/pub_link/Collateral/ECH8309-D.PDF; ComponentLink3Description: Package Specification; ComponentLink3URL: http://www.onsemi.com/pub_link/Collateral/ECH8308-D.PDF
footprint ONSC-ECH-8_V (SOT23, 8-Leads, Body 2.9x2.3mm, Pitch 0.65mm)
pins: 1 S, 2 S, 3 S, 4 G, 5 D, 6 D, 7 D, 8 D
text: 5, 6, 7, 8; 1, 2, 3

## ECH8310-TL-H
designator Q?
P-Channel Power MOSFET, -30 V, -9 A, 17 mOhm, Single, 8-Pin ECH, Pb-Free, Tape and Reel; Manufacturer: On Semiconductor; PartNumber: ECH8310-TL-H; Channel Polarity: P Channel; Ciss Typ (pF): 1400; Coss Typ (pF): 350; Crss Typ (pF): 250; ID Max (A): 9; PD Max (W): 1.5; V(BR)DSS Min (V): 30; VGS Max (V): 20; VGS(th) Max (V): 2.6; PackageReference: ECH-8; PackageDescription: 8-Pin SOT23, Body 2.9 x 2.3 mm, Pitch 0.65 mm; Supplier 1: Digi-Key; Supplier Part Number 1: ECH8310-TL-H-ND; Supplier 2: Mouser; Supplier Part Number 2: 863-ECH8310-TL-H; Configuration: Single; Package Type: SOT-28 FL / ECH-8; Packing: Tape and Reel; RoHS: Pb-Free; Mounting Technology: Surface Mount; ComponentLink1Description: Manufacturer URL; ComponentLink1URL: http://www.onsemi.com/; ComponentLink2Description: Datasheet; ComponentLink2URL: http://www.onsemi.com/pub_link/Collateral/ECH8310-D.PDF; ComponentLink3Description: Package Specification; ComponentLink3URL: http://www.onsemi.com/pub_link/Collateral/ECH8308-D.PDF
footprint ONSC-ECH-8_V (SOT23, 8-Leads, Body 2.9x2.3mm, Pitch 0.65mm)
pins: 1 S, 2 S, 3 S, 4 G, 5 D, 6 D, 7 D, 8 D
text: 5, 6, 7, 8; 1, 2, 3

## ECH8315-TL-H
designator Q?
P-Channel Power MOSFET, -30 V, -7.5 A, 25 mOhm, Single, 8-Pin ECH, Pb-Free, Tape and Reel; Manufacturer: On Semiconductor; PartNumber: ECH8315-TL-H; Channel Polarity: P Channel; Ciss Typ (pF): 875; Coss Typ (pF): 200; Crss Typ (pF): 150; ID Max (A): 7.5; PD Max (W): 1.5; V(BR)DSS Min (V): 30; VGS Max (V): 20; VGS(th) Max (V): 2.6; PackageReference: ECH-8; PackageDescription: 8-Pin SOT23, Body 2.9 x 2.3 mm, Pitch 0.65 mm; Supplier 1: Digi-Key; Supplier Part Number 1: ECH8315-TL-H-ND; Supplier 2: Mouser; Supplier Part Number 2: 863-ECH8315-TL-H; Configuration: Single; Package Type: SOT-28 FL / ECH-8; Packing: Tape and Reel; RoHS: Pb-Free; Mounting Technology: Surface Mount; ComponentLink1Description: Manufacturer URL; ComponentLink1URL: http://www.onsemi.com/; ComponentLink2Description: Datasheet; ComponentLink2URL: http://www.onsemi.com/pub_link/Collateral/ENA1387-D.PDF; ComponentLink3Description: Package Specification; ComponentLink3URL: http://www.onsemi.com/pub_link/Collateral/ECH8308-D.PDF
footprint ONSC-ECH-8_V (SOT23, 8-Leads, Body 2.9x2.3mm, Pitch 0.65mm)
pins: 1 S, 2 S, 3 S, 4 G, 5 D, 6 D, 7 D, 8 D
text: 5, 6, 7, 8; 1, 2, 3

## ECH8320-TL-H
designator Q?
P-Channel Power MOSFET, -20 V, -9.5 A, 14.5 mOhm, Single, 8-Pin ECH, Pb-Free, Tape and Reel; Manufacturer: On Semiconductor; PartNumber: ECH8320-TL-H; Channel Polarity: P Channel; Ciss Typ (pF): 2300; Coss Typ (pF): 440; Crss Typ (pF): 340; ID Max (A): 9.5; PD Max (W): 1.6; V(BR)DSS Min (V): 20; VGS Max (V): 10; VGS(th) Max (V): 1.3; PackageReference: ECH-8; PackageDescription: 8-Pin SOT23, Body 2.9 x 2.3 mm, Pitch 0.65 mm; Supplier 1: Digi-Key; Supplier Part Number 1: ECH8320-TL-H-ND; Supplier 2: Mouser; Supplier Part Number 2: 863-ECH8320-TL-H; Configuration: Single; Package Type: SOT-28 FL / ECH-8; Packing: Tape and Reel; RoHS: Pb-Free; Mounting Technology: Surface Mount; ComponentLink1Description: Manufacturer URL; ComponentLink1URL: http://www.onsemi.com/; ComponentLink2Description: Datasheet; ComponentLink2URL: http://www.onsemi.com/pub_link/Collateral/ECH8320-D.PDF; ComponentLink3Description: Package Specification; ComponentLink3URL: http://www.onsemi.com/pub_link/Collateral/ECH8308-D.PDF
footprint ONSC-ECH-8_V (SOT23, 8-Leads, Body 2.9x2.3mm, Pitch 0.65mm)
pins: 1 S, 2 S, 3 S, 4 G, 5 D, 6 D, 7 D, 8 D
text: 5, 6, 7, 8; 1, 2, 3

## ECH8410-TL-H
designator Q?
N-Channel Power MOSFET, 30 V, 12 A, 10 mOhm, Single, 8-Pin ECH, Pb-Free, Tape and Reel; Manufacturer: On Semiconductor; PartNumber: ECH8410-TL-H; Channel Polarity: N Channel; Ciss Typ (pF): 1700; Coss Typ (pF): 300; Crss Typ (pF): 200; ID Max (A): 12; PD Max (W): 1.6; V(BR)DSS Min (V): 30; VGS Max (V): 20; VGS(th) Max (V): 2.6; PackageReference: ECH-8; PackageDescription: 8-Pin SOT23, Body 2.9 x 2.3 mm, Pitch 0.65 mm; Supplier 1: Digi-Key; Supplier Part Number 1: ECH8410-TL-H-ND; Supplier 2: Mouser; Supplier Part Number 2: 863-ECH8410-TL-H; Configuration: Single; Package Type: SOT-28 FL / ECH-8; Packing: Tape and Reel; RoHS: Pb-Free; Mounting Technology: Surface Mount; ComponentLink1Description: Manufacturer URL; ComponentLink1URL: http://www.onsemi.com/; ComponentLink2Description: Datasheet; ComponentLink2URL: http://www.onsemi.com/pub_link/Collateral/ECH8410-D.PDF; ComponentLink3Description: Package Specification; ComponentLink3URL: http://www.onsemi.com/pub_link/Collateral/ECH8308-D.PDF
footprint ONSC-ECH-8_V (SOT23, 8-Leads, Body 2.9x2.3mm, Pitch 0.65mm)
pins: 1 S, 2 S, 3 S, 4 G, 5 D, 6 D, 7 D, 8 D
text: 5, 6, 7, 8; 1, 2, 3

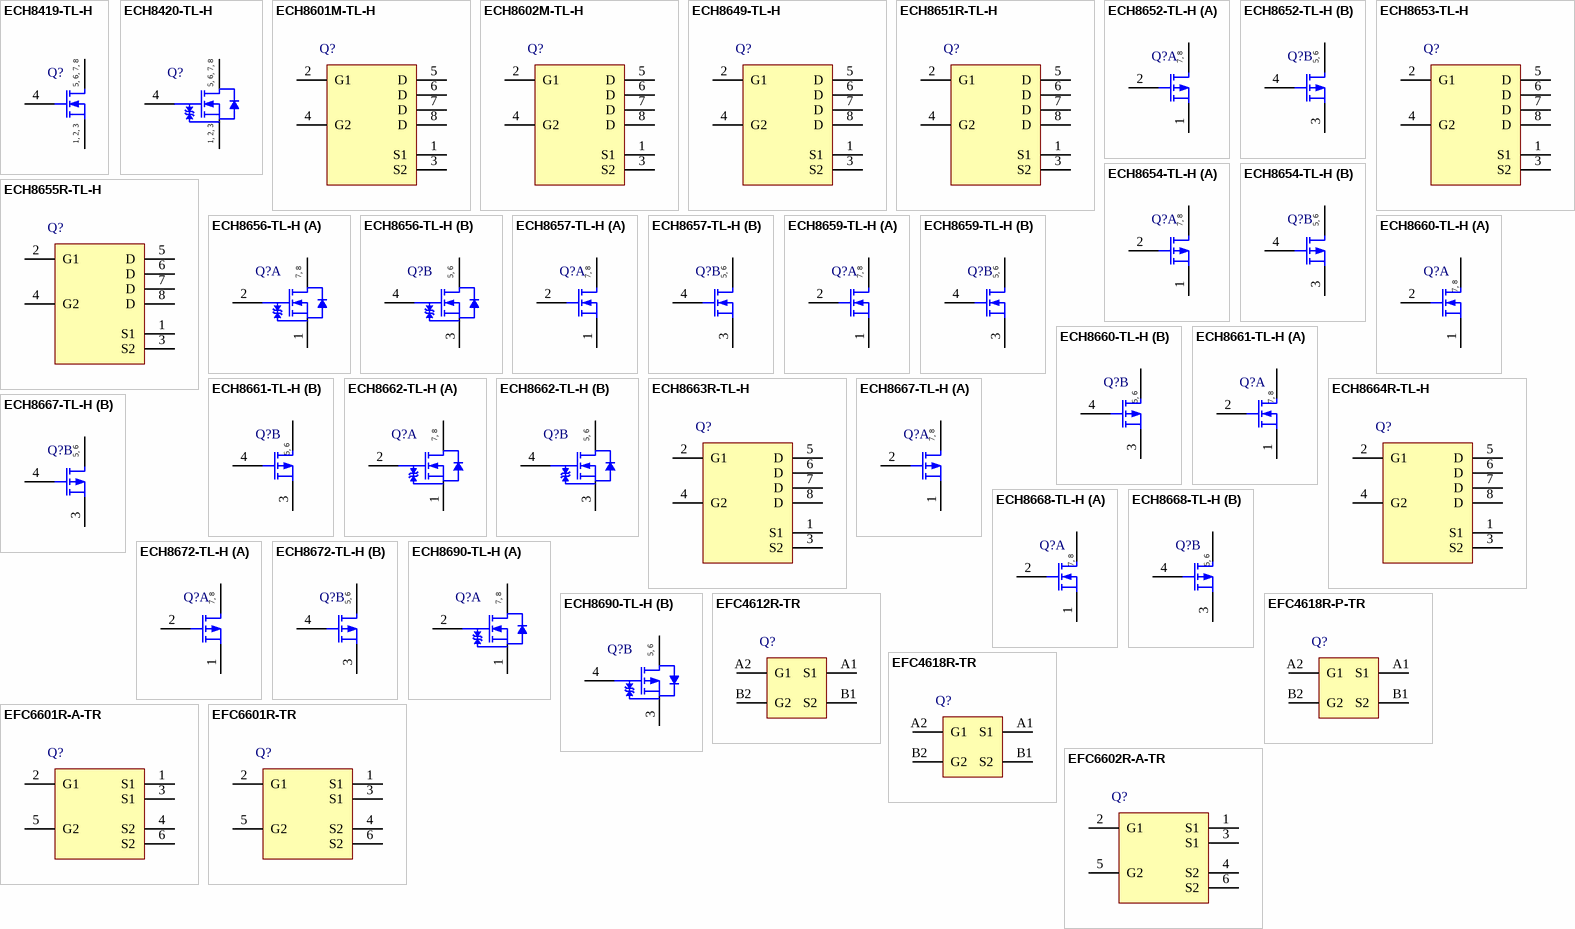
[diagram p4: symbols ECH8419-TL-H to EFC6602R-A-TR]

## ECH8419-TL-H
designator Q?
N-Channel Power MOSFET, 35 V, 9 A, 17 mOhm, Single, 8-Pin ECH, Pb-Free, Tape and Reel; Manufacturer: On Semiconductor; PartNumber: ECH8419-TL-H; Channel Polarity: N Channel; Ciss Typ (pF): 960; Coss Typ (pF): 130; Crss Typ (pF): 80; ID Max (A): 9; PD Max (W): 1.5; V(BR)DSS Min (V): 35; VGS Max (V): 20; VGS(th) Max (V): 2.6; PackageReference: ECH-8; PackageDescription: 8-Pin SOT23, Body 2.9 x 2.3 mm, Pitch 0.65 mm; Supplier 1: Digi-Key; Supplier Part Number 1: ECH8419-TL-H-ND; Supplier 2: Newark; Supplier Part Number 2: 65T1217; Supplier 3: Mouser; Supplier Part Number 3: 863-ECH8419-TL-H; Configuration: Single; Package Type: SOT-28 FL / ECH-8; Packing: Tape and Reel; RoHS: Pb-Free; Mounting Technology: Surface Mount; ComponentLink1Description: Manufacturer URL; ComponentLink1URL: http://www.onsemi.com/; ComponentLink2Description: Datasheet; ComponentLink2URL: http://www.onsemi.com/pub_link/Collateral/ENA1886-D.PDF; ComponentLink3Description: Package Specification; ComponentLink3URL: http://www.onsemi.com/pub_link/Collateral/ECH8308-D.PDF
footprint ONSC-ECH-8_V (SOT23, 8-Leads, Body 2.9x2.3mm, Pitch 0.65mm)
pins: 1 S, 2 S, 3 S, 4 G, 5 D, 6 D, 7 D, 8 D
text: 5, 6, 7, 8; 1, 2, 3

## ECH8420-TL-H
designator Q?
N-Channel Power MOSFET, 20 V, 14 A, 6.8 mOhm, Single, 8-Pin ECH, Pb-Free, Tape and Reel; Manufacturer: On Semiconductor; PartNumber: ECH8420-TL-H; Channel Polarity: N Channel; Ciss Typ (pF): 2430; Coss Typ (pF): 410; Crss Typ (pF): 330; ID Max (A): 14; PD Max (W): 1.6; V(BR)DSS Min (V): 20; VGS Max (V): 12; VGS(th) Max (V): 1.3; PackageReference: ECH-8; PackageDescription: 8-Pin SOT23, Body 2.9 x 2.3 mm, Pitch 0.65 mm; Supplier 1: Digi-Key; Supplier Part Number 1: ECH8420-TL-H-ND; Supplier 2: Newark; Supplier Part Number 2: 07W6844; Supplier 3: Mouser; Supplier Part Number 3: 863-ECH8420-TL-H; Configuration: Single; Package Type: SOT-28 FL / ECH-8; Packing: Tape and Reel; RoHS: Pb-Free; Mounting Technology: Surface Mount; ComponentLink1Description: Manufacturer URL; ComponentLink1URL: http://www.onsemi.com/; ComponentLink2Description: Datasheet; ComponentLink2URL: http://www.onsemi.com/pub_link/Collateral/ECH8420.PDF; ComponentLink3Description: Package Specification; ComponentLink3URL: http://www.onsemi.com/pub_link/Collateral/ECH8308-D.PDF
footprint ONSC-ECH-8_V (SOT23, 8-Leads, Body 2.9x2.3mm, Pitch 0.65mm)
pins: 1 S, 2 S, 3 S, 4 G, 5 D, 6 D, 7 D, 8 D
text: 5, 6, 7, 8; 1, 2, 3

## ECH8601M-TL-H
designator Q?
N-Channel Power MOSFET, 24 V, 8 A, 23 mOhm, Dual, 8-Pin ECH, Pb-Free, Tape and Reel; Manufacturer: On Semiconductor; PartNumber: ECH8601M-TL-H; Channel Polarity: N Channel; ID Max (A): 8; PD Max (W): 1.5; V(BR)DSS Min (V): 24; VGS Max (V): 12; VGS(th) Max (V): 1.3; PackageReference: ECH-8; PackageDescription: 8-Pin SOT23, Body 2.9 x 2.3 mm, Pitch 0.65 mm; Supplier 1: Digi-Key; Supplier Part Number 1: ECH8601M-TL-H-ND; Supplier 2: Mouser; Supplier Part Number 2: 863-ECH8601M-TL-H; Configuration: Dual; Package Type: SOT-28 FL / ECH-8; Packing: Tape and Reel; RoHS: Pb-Free; Mounting Technology: Surface Mount; ComponentLink1Description: Manufacturer URL; ComponentLink1URL: http://www.onsemi.com/; ComponentLink2Description: Datasheet; ComponentLink2URL: http://www.onsemi.com/pub_link/Collateral/ECH8601M-D.PDF; ComponentLink3Description: Package Specification; ComponentLink3URL: http://www.onsemi.com/pub_link/Collateral/ECH8308-D.PDF
footprint ONSC-ECH-8_V (SOT23, 8-Leads, Body 2.9x2.3mm, Pitch 0.65mm)
pins: 1 S1, 2 G1, 3 S2, 4 G2, 5 D, 6 D, 7 D, 8 D

## ECH8602M-TL-H
designator Q?
N-Channel Power MOSFET, 30 V, 6 A, 30 mOhm, Dual, 8-Pin ECH, Pb-Free, Tape and Reel; Manufacturer: On Semiconductor; PartNumber: ECH8602M-TL-H; Channel Polarity: N Channel; ID Max (A): 6; PD Max (W): 1.4; V(BR)DSS Min (V): 30; VGS Max (V): 12; VGS(th) Max (V): 1.3; PackageReference: ECH-8; PackageDescription: 8-Pin SOT23, Body 2.9 x 2.3 mm, Pitch 0.65 mm; Supplier 1: Digi-Key; Supplier Part Number 1: ECH8602M-TL-H-ND; Supplier 2: Mouser; Supplier Part Number 2: 863-ECH8602M-TL-H; Configuration: Dual; Package Type: SOT-28 FL / ECH-8; Packing: Tape and Reel; RoHS: Pb-Free; Mounting Technology: Surface Mount; ComponentLink1Description: Manufacturer URL; ComponentLink1URL: http://www.onsemi.com/; ComponentLink2Description: Datasheet; ComponentLink2URL: http://www.onsemi.com/pub_link/Collateral/ECH8602M-D.PDF; ComponentLink3Description: Package Specification; ComponentLink3URL: http://www.onsemi.com/pub_link/Collateral/ECH8308-D.PDF
footprint ONSC-ECH-8_V (SOT23, 8-Leads, Body 2.9x2.3mm, Pitch 0.65mm)
pins: 1 S1, 2 G1, 3 S2, 4 G2, 5 D, 6 D, 7 D, 8 D

## ECH8649-TL-H
designator Q?
N-Channel Power MOSFET, 20 V, 7.5 A, 17 mOhm, Dual, 8-Pin ECH, Pb-Free, Tape and Reel; Manufacturer: On Semiconductor; PartNumber: ECH8649-TL-H; Channel Polarity: N Channel; Ciss Typ (pF): 1060; Coss Typ (pF): 180; Crss Typ (pF): 135; ID Max (A): 7.5; PD Max (W): 1.4; V(BR)DSS Min (V): 20; VGS Max (V): 10; VGS(th) Max (V): 1.3; PackageReference: ECH-8; PackageDescription: 8-Pin SOT23, Body 2.9 x 2.3 mm, Pitch 0.65 mm; Supplier 1: Digi-Key; Supplier Part Number 1: ECH8649-TL-H-ND; Supplier 2: Mouser; Supplier Part Number 2: 863-ECH8649-TL-H; Configuration: Dual; Package Type: SOT-28 FL / ECH-8; Packing: Tape and Reel; RoHS: Pb-Free; Mounting Technology: Surface Mount; ComponentLink1Description: Manufacturer URL; ComponentLink1URL: http://www.onsemi.com/; ComponentLink2Description: Datasheet; ComponentLink2URL: http://www.onsemi.com/pub_link/Collateral/ECH8649-D.PDF; ComponentLink3Description: Package Specification; ComponentLink3URL: http://www.onsemi.com/pub_link/Collateral/ECH8308-D.PDF
footprint ONSC-ECH-8_V (SOT23, 8-Leads, Body 2.9x2.3mm, Pitch 0.65mm)
pins: 1 S1, 2 G1, 3 S2, 4 G2, 5 D, 6 D, 7 D, 8 D

## ECH8651R-TL-H
designator Q?
N-Channel Power MOSFET, 24 V, 10 A, 14 mOhm, Dual, 8-Pin ECH, Pb-Free, Tape and Reel; Manufacturer: On Semiconductor; PartNumber: ECH8651R-TL-H; Channel Polarity: N Channel; ID Max (A): 10; PD Max (W): 1.4; V(BR)DSS Min (V): 24; VGS Max (V): 12; VGS(th) Max (V): 1.3; PackageReference: ECH-8; PackageDescription: 8-Pin SOT23, Body 2.9 x 2.3 mm, Pitch 0.65 mm; Supplier 1: Digi-Key; Supplier Part Number 1: 869-1158-2-ND; Supplier 2: Digi-Key; Supplier Part Number 2: 869-1158-1-ND; Supplier 3: Digi-Key; Supplier Part Number 3: 869-1158-6-ND; Supplier 4: Mouser; Supplier Part Number 4: 863-ECH8651R-TL-H; Configuration: Dual; Package Type: SOT-28 FL / ECH-8; Packing: Tape and Reel; RoHS: Pb-Free; Mounting Technology: Surface Mount; ComponentLink1Description: Manufacturer URL; ComponentLink1URL: http://www.onsemi.com/; ComponentLink2Description: Datasheet; ComponentLink2URL: http://www.onsemi.com/pub_link/Collateral/ECH8651R-D.PDF; ComponentLink3Description: Package Specification; ComponentLink3URL: http://www.onsemi.com/pub_link/Collateral/ECH8308-D.PDF
footprint ONSC-ECH-8_V (SOT23, 8-Leads, Body 2.9x2.3mm, Pitch 0.65mm)
pins: 1 S1, 2 G1, 3 S2, 4 G2, 5 D, 6 D, 7 D, 8 D

## ECH8652-TL-H
designator Q?
P-Channel Power MOSFET, -12 V, -6 A, 28 mOhm, Dual, 8-Pin ECH, Pb-Free, Tape and Reel; Manufacturer: On Semiconductor; PartNumber: ECH8652-TL-H; Channel Polarity: P Channel; Ciss Typ (pF): 1000; Coss Typ (pF): 320; Crss Typ (pF): 250; ID Max (A): 6; PD Max (W): 1.3; V(BR)DSS Min (V): 12; VGS Max (V): 10; VGS(th) Max (V): 1.4; PackageReference: ECH-8; PackageDescription: 8-Pin SOT23, Body 2.9 x 2.3 mm, Pitch 0.65 mm; Supplier 1: Digi-Key; Supplier Part Number 1: ECH8652-TL-H-ND; Supplier 2: Mouser; Supplier Part Number 2: 863-ECH8652-TL-H; Configuration: Dual; Package Type: SOT-28 FL / ECH-8; Packing: Tape and Reel; RoHS: Pb-Free; Mounting Technology: Surface Mount; ComponentLink1Description: Manufacturer URL; ComponentLink1URL: http://www.onsemi.com/; ComponentLink2Description: Datasheet; ComponentLink2URL: http://www.onsemi.com/pub_link/Collateral/ECH8652-D.PDF; ComponentLink3Description: Package Specification; ComponentLink3URL: http://www.onsemi.com/pub_link/Collateral/ECH8308-D.PDF
footprint ONSC-ECH-8_V (SOT23, 8-Leads, Body 2.9x2.3mm, Pitch 0.65mm)
part A pins: 1 S1, 2 G1, 7 D1, 8 D1
part B pins: 3 S2, 4 G2, 5 D2, 6 D2
part A text: 7, 8
part B text: 5, 6